# Altium schematic symbol library MCU_Module.SchLib: 53 symbols (part 2 of 2)
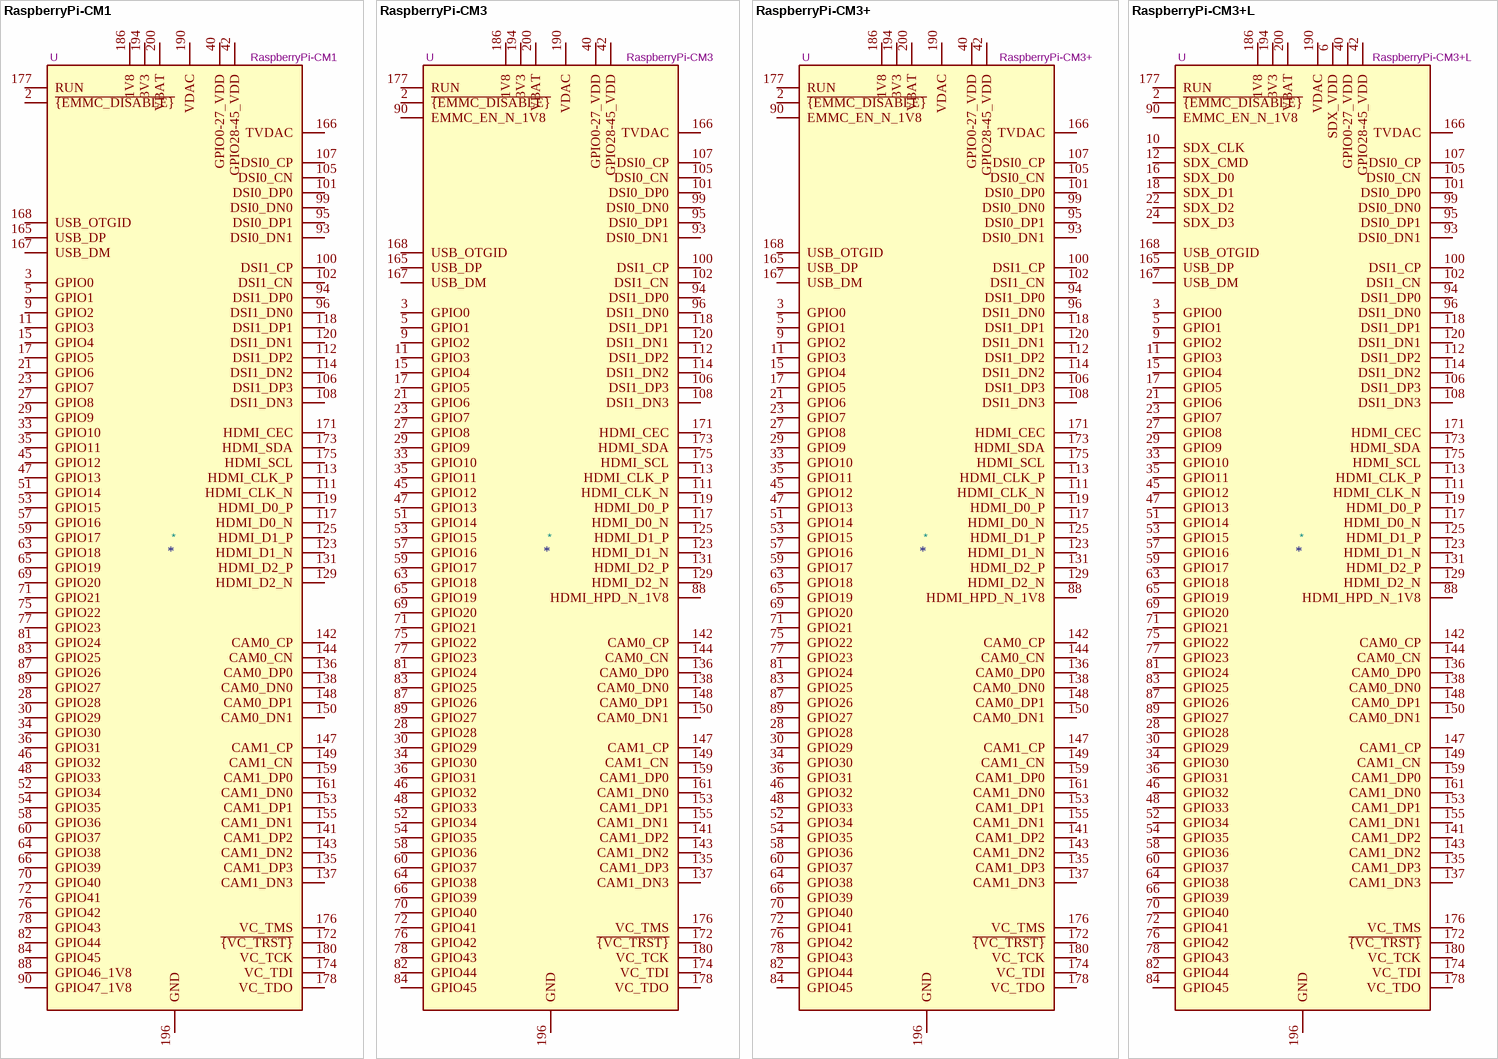
[diagram p10: symbols RaspberryPi-CM1 to RaspberryPi-CM3+L]

## RaspberryPi-CM1
designator *  value RaspberryPi-CM1  Reference: U
ki_keywords: raspberry pi compute module; ki_description: BCM2835 Broadcom 700 MZ single core, 512 MB RAM 4 GB eMMC, industrial SoM computer; ki_fp_filters: *SODIMM*; Datasheet: https://www.raspberrypi.org/documentation/hardware/computemodule/datasheets/rpi_DATA_CM_1p0.pdf
pins: 1 GND hidden, 2 ~{{EMMC_DISABLE}}, 3 GPIO0, 4 NC hidden, 5 GPIO1, 6 NC hidden, 7 GND hidden, 8 NC hidden, 9 GPIO2, 10 NC hidden, 11 GPIO3, 12 NC hidden, 13 GND hidden, 14 NC hidden, 15 GPIO4, 16 NC hidden, 17 GPIO5, 18 NC hidden, 19 GND hidden, 20 NC hidden, 21 GPIO6, 22 NC hidden, 23 GPIO7, 24 NC hidden, 25 GND hidden, 26 GND hidden, 27 GPIO8, 28 GPIO28, 29 GPIO9, 30 GPIO29, 31 GND hidden, 32 GND hidden, 33 GPIO10, 34 GPIO30, 35 GPIO11, 36 GPIO31, 37 GND hidden, 38 GND hidden, 39 GPIO0-27_VDD hidden, 40 GPIO0-27_VDD, 41 GPIO28-45_VDD hidden, 42 GPIO28-45_VDD, 43 GND hidden, 44 GND hidden, 45 GPIO12, 46 GPIO32, 47 GPIO13, 48 GPIO33, 49 GND hidden, 50 GND hidden, 51 GPIO14, 52 GPIO34, 53 GPIO15, 54 GPIO35, 55 GND hidden, 56 GND hidden, 57 GPIO16, 58 GPIO36, 59 GPIO17, 60 GPIO37, 61 GND hidden, 62 GND hidden, 63 GPIO18, 64 GPIO38, 65 GPIO19, 66 GPIO39, 67 GND hidden, 68 GND hidden, 69 GPIO20, 70 GPIO40, 71 GPIO21, 72 GPIO41, 73 GND hidden, 74 GND hidden, 75 GPIO22, 76 GPIO42, 77 GPIO23, 78 GPIO43, 79 GND hidden, 80 GND hidden, 81 GPIO24, 82 GPIO44, 83 GPIO25, 84 GPIO45, 85 GND hidden, 86 GND hidden, 87 GPIO26, 88 GPIO46_1V8, 89 GPIO27, 90 GPIO47_1V8, 91 GND hidden, 92 GND hidden, 93 DSI0_DN1, 94 DSI1_DP0, 95 DSI0_DP1, 96 DSI1_DN0, 97 GND hidden, 98 GND hidden, 99 DSI0_DN0, 100 DSI1_CP, 101 DSI0_DP0, 102 DSI1_CN, 103 GND hidden, 104 GND hidden, 105 DSI0_CN, 106 DSI1_DP3, 107 DSI0_CP, 108 DSI1_DN3, 109 GND hidden, 110 GND hidden, 111 HDMI_CLK_N, 112 DSI1_DP2, 113 HDMI_CLK_P, 114 DSI1_DN2, 115 GND hidden, 116 GND hidden, 117 HDMI_D0_N, 118 DSI1_DP1, 119 HDMI_D0_P, 120 DSI1_DN1, 121 GND hidden, 122 GND hidden, 123 HDMI_D1_N, 124 NC hidden, 125 HDMI_D1_P, 126 NC hidden, 127 GND hidden, 128 NC hidden, 129 HDMI_D2_N, 130 NC hidden, 131 HDMI_D2_P, 132 NC hidden, 133 GND hidden, 134 GND hidden, 135 CAM1_DP3, 136 CAM0_DP0, 137 CAM1_DN3, 138 CAM0_DN0, 139 GND hidden, 140 GND hidden, 141 CAM1_DP2, 142 CAM0_CP, 143 CAM1_DN2, 144 CAM0_CN, 145 GND hidden, 146 GND hidden, 147 CAM1_CP, 148 CAM0_DP1, 149 CAM1_CN, 150 CAM0_DN1, 151 GND hidden, 152 GND hidden, 153 CAM1_DP1, 154 NC hidden, 155 CAM1_DN1, 156 NC hidden, 157 GND hidden, 158 NC hidden, 159 CAM1_DP0, 160 NC hidden, 161 CAM1_DN0, 162 NC hidden, 163 GND hidden, 164 GND hidden, 165 USB_DP, 166 TVDAC, 167 USB_DM, 168 USB_OTGID, 169 GND hidden, 170 GND hidden, 171 HDMI_CEC, 172 ~{{VC_TRST}}, 173 HDMI_SDA, 174 VC_TDI, 175 HDMI_SCL, 176 VC_TMS, 177 RUN, 178 VC_TDO, 179 VDD_CORE_(DO_NOT_CONNECT) hidden, 180 VC_TCK, 181 GND hidden, 182 GND hidden, 183 1V8 hidden, 184 1V8 hidden, 185 1V8 hidden, 186 1V8, 187 GND hidden, 188 GND hidden, 189 VDAC hidden, 190 VDAC, 191 3V3 hidden, 192 3V3 hidden, 193 3V3 hidden, 194 3V3, 195 GND hidden, 196 GND, 197 VBAT hidden, 198 VBAT hidden, 199 VBAT hidden, 200 VBAT

## RaspberryPi-CM3
designator *  value RaspberryPi-CM3  Reference: U
ki_keywords: raspberry pi compute module; ki_description: BCM2837 Broadcom 1.2 GHZ quad core, 1 GB RAM 4 GB eMMC,  industrial SoM computer; ki_fp_filters: *SODIMM*; Datasheet: https://www.raspberrypi.org/documentation/hardware/computemodule/datasheets/rpi_DATA_CM_1p0.pdf
pins: 1 GND hidden, 2 ~{{EMMC_DISABLE}}, 3 GPIO0, 4 NC hidden, 5 GPIO1, 6 NC hidden, 7 GND hidden, 8 GND hidden, 9 GPIO2, 10 NC hidden, 11 GPIO3, 12 NC hidden, 13 GND hidden, 14 GND hidden, 15 GPIO4, 16 NC hidden, 17 GPIO5, 18 NC hidden, 19 GND hidden, 20 GND hidden, 21 GPIO6, 22 NC hidden, 23 GPIO7, 24 NC hidden, 25 GND hidden, 26 GND hidden, 27 GPIO8, 28 GPIO28, 29 GPIO9, 30 GPIO29, 31 GND hidden, 32 GND hidden, 33 GPIO10, 34 GPIO30, 35 GPIO11, 36 GPIO31, 37 GND hidden, 38 GND hidden, 39 GPIO0-27_VDD hidden, 40 GPIO0-27_VDD, 41 GPIO28-45_VDD hidden, 42 GPIO28-45_VDD, 43 GND hidden, 44 GND hidden, 45 GPIO12, 46 GPIO32, 47 GPIO13, 48 GPIO33, 49 GND hidden, 50 GND hidden, 51 GPIO14, 52 GPIO34, 53 GPIO15, 54 GPIO35, 55 GND hidden, 56 GND hidden, 57 GPIO16, 58 GPIO36, 59 GPIO17, 60 GPIO37, 61 GND hidden, 62 GND hidden, 63 GPIO18, 64 GPIO38, 65 GPIO19, 66 GPIO39, 67 GND hidden, 68 GND hidden, 69 GPIO20, 70 GPIO40, 71 GPIO21, 72 GPIO41, 73 GND hidden, 74 GND hidden, 75 GPIO22, 76 GPIO42, 77 GPIO23, 78 GPIO43, 79 GND hidden, 80 GND hidden, 81 GPIO24, 82 GPIO44, 83 GPIO25, 84 GPIO45, 85 GND hidden, 86 GND hidden, 87 GPIO26, 88 HDMI_HPD_N_1V8, 89 GPIO27, 90 EMMC_EN_N_1V8, 91 GND hidden, 92 GND hidden, 93 DSI0_DN1, 94 DSI1_DP0, 95 DSI0_DP1, 96 DSI1_DN0, 97 GND hidden, 98 GND hidden, 99 DSI0_DN0, 100 DSI1_CP, 101 DSI0_DP0, 102 DSI1_CN, 103 GND hidden, 104 GND hidden, 105 DSI0_CN, 106 DSI1_DP3, 107 DSI0_CP, 108 DSI1_DN3, 109 GND hidden, 110 GND hidden, 111 HDMI_CLK_N, 112 DSI1_DP2, 113 HDMI_CLK_P, 114 DSI1_DN2, 115 GND hidden, 116 GND hidden, 117 HDMI_D0_N, 118 DSI1_DP1, 119 HDMI_D0_P, 120 DSI1_DN1, 121 GND hidden, 122 GND hidden, 123 HDMI_D1_N, 124 NC hidden, 125 HDMI_D1_P, 126 NC hidden, 127 GND hidden, 128 NC hidden, 129 HDMI_D2_N, 130 NC hidden, 131 HDMI_D2_P, 132 NC hidden, 133 GND hidden, 134 GND hidden, 135 CAM1_DP3, 136 CAM0_DP0, 137 CAM1_DN3, 138 CAM0_DN0, 139 GND hidden, 140 GND hidden, 141 CAM1_DP2, 142 CAM0_CP, 143 CAM1_DN2, 144 CAM0_CN, 145 GND hidden, 146 GND hidden, 147 CAM1_CP, 148 CAM0_DP1, 149 CAM1_CN, 150 CAM0_DN1, 151 GND hidden, 152 GND hidden, 153 CAM1_DP1, 154 NC hidden, 155 CAM1_DN1, 156 NC hidden, 157 GND hidden, 158 NC hidden, 159 CAM1_DP0, 160 NC hidden, 161 CAM1_DN0, 162 NC hidden, 163 GND hidden, 164 GND hidden, 165 USB_DP, 166 TVDAC, 167 USB_DM, 168 USB_OTGID, 169 GND hidden, 170 GND hidden, 171 HDMI_CEC, 172 ~{{VC_TRST}}, 173 HDMI_SDA, 174 VC_TDI, 175 HDMI_SCL, 176 VC_TMS, 177 RUN, 178 VC_TDO, 179 VDD_CORE_(DO_NOT_CONNECT) hidden, 180 VC_TCK, 181 GND hidden, 182 GND hidden, 183 1V8 hidden, 184 1V8 hidden, 185 1V8 hidden, 186 1V8, 187 GND hidden, 188 GND hidden, 189 VDAC hidden, 190 VDAC, 191 3V3 hidden, 192 3V3 hidden, 193 3V3 hidden, 194 3V3, 195 GND hidden, 196 GND, 197 VBAT hidden, 198 VBAT hidden, 199 VBAT hidden, 200 VBAT

## RaspberryPi-CM3+
designator *  value RaspberryPi-CM3+  Reference: U
ki_keywords: raspberry pi compute module; ki_description: BCM2837B0 Broadcom 1.2 GHZ quad core, 1 GB RAM 8/16/32 GB eMMC, industrial SoM computer; ki_fp_filters: *SODIMM*; Datasheet: https://www.raspberrypi.org/documentation/hardware/computemodule/datasheets/rpi_DATA_CM3plus_1p0.pdf
pins: 1 GND hidden, 2 ~{{EMMC_DISABLE}}, 3 GPIO0, 4 NC hidden, 5 GPIO1, 6 NC hidden, 7 GND hidden, 8 GND hidden, 9 GPIO2, 10 NC hidden, 11 GPIO3, 12 NC hidden, 13 GND hidden, 14 GND hidden, 15 GPIO4, 16 NC hidden, 17 GPIO5, 18 NC hidden, 19 GND hidden, 20 GND hidden, 21 GPIO6, 22 NC hidden, 23 GPIO7, 24 NC hidden, 25 GND hidden, 26 GND hidden, 27 GPIO8, 28 GPIO28, 29 GPIO9, 30 GPIO29, 31 GND hidden, 32 GND hidden, 33 GPIO10, 34 GPIO30, 35 GPIO11, 36 GPIO31, 37 GND hidden, 38 GND hidden, 39 GPIO0-27_VDD hidden, 40 GPIO0-27_VDD, 41 GPIO28-45_VDD hidden, 42 GPIO28-45_VDD, 43 GND hidden, 44 GND hidden, 45 GPIO12, 46 GPIO32, 47 GPIO13, 48 GPIO33, 49 GND hidden, 50 GND hidden, 51 GPIO14, 52 GPIO34, 53 GPIO15, 54 GPIO35, 55 GND hidden, 56 GND hidden, 57 GPIO16, 58 GPIO36, 59 GPIO17, 60 GPIO37, 61 GND hidden, 62 GND hidden, 63 GPIO18, 64 GPIO38, 65 GPIO19, 66 GPIO39, 67 GND hidden, 68 GND hidden, 69 GPIO20, 70 GPIO40, 71 GPIO21, 72 GPIO41, 73 GND hidden, 74 GND hidden, 75 GPIO22, 76 GPIO42, 77 GPIO23, 78 GPIO43, 79 GND hidden, 80 GND hidden, 81 GPIO24, 82 GPIO44, 83 GPIO25, 84 GPIO45, 85 GND hidden, 86 GND hidden, 87 GPIO26, 88 HDMI_HPD_N_1V8, 89 GPIO27, 90 EMMC_EN_N_1V8, 91 GND hidden, 92 GND hidden, 93 DSI0_DN1, 94 DSI1_DP0, 95 DSI0_DP1, 96 DSI1_DN0, 97 GND hidden, 98 GND hidden, 99 DSI0_DN0, 100 DSI1_CP, 101 DSI0_DP0, 102 DSI1_CN, 103 GND hidden, 104 GND hidden, 105 DSI0_CN, 106 DSI1_DP3, 107 DSI0_CP, 108 DSI1_DN3, 109 GND hidden, 110 GND hidden, 111 HDMI_CLK_N, 112 DSI1_DP2, 113 HDMI_CLK_P, 114 DSI1_DN2, 115 GND hidden, 116 GND hidden, 117 HDMI_D0_N, 118 DSI1_DP1, 119 HDMI_D0_P, 120 DSI1_DN1, 121 GND hidden, 122 GND hidden, 123 HDMI_D1_N, 124 NC hidden, 125 HDMI_D1_P, 126 NC hidden, 127 GND hidden, 128 NC hidden, 129 HDMI_D2_N, 130 NC hidden, 131 HDMI_D2_P, 132 NC hidden, 133 GND hidden, 134 GND hidden, 135 CAM1_DP3, 136 CAM0_DP0, 137 CAM1_DN3, 138 CAM0_DN0, 139 GND hidden, 140 GND hidden, 141 CAM1_DP2, 142 CAM0_CP, 143 CAM1_DN2, 144 CAM0_CN, 145 GND hidden, 146 GND hidden, 147 CAM1_CP, 148 CAM0_DP1, 149 CAM1_CN, 150 CAM0_DN1, 151 GND hidden, 152 GND hidden, 153 CAM1_DP1, 154 NC hidden, 155 CAM1_DN1, 156 NC hidden, 157 GND hidden, 158 NC hidden, 159 CAM1_DP0, 160 NC hidden, 161 CAM1_DN0, 162 NC hidden, 163 GND hidden, 164 GND hidden, 165 USB_DP, 166 TVDAC, 167 USB_DM, 168 USB_OTGID, 169 GND hidden, 170 GND hidden, 171 HDMI_CEC, 172 ~{{VC_TRST}}, 173 HDMI_SDA, 174 VC_TDI, 175 HDMI_SCL, 176 VC_TMS, 177 RUN, 178 VC_TDO, 179 VDD_CORE_(DO_NOT_CONNECT) hidden, 180 VC_TCK, 181 GND hidden, 182 GND hidden, 183 1V8 hidden, 184 1V8 hidden, 185 1V8 hidden, 186 1V8, 187 GND hidden, 188 GND hidden, 189 VDAC hidden, 190 VDAC, 191 3V3 hidden, 192 3V3 hidden, 193 3V3 hidden, 194 3V3, 195 GND hidden, 196 GND, 197 VBAT hidden, 198 VBAT hidden, 199 VBAT hidden, 200 VBAT

## RaspberryPi-CM3+L
designator *  value RaspberryPi-CM3+L  Reference: U
ki_keywords: raspberry pi compute module; ki_description: BCM2837B0 Broadcom 1.2 GHZ quad core, 1 GB RAM, industrial SoM computer; ki_fp_filters: *SODIMM*; Datasheet: https://www.raspberrypi.org/documentation/hardware/computemodule/datasheets/rpi_DATA_CM3plus_1p0.pdf
pins: 1 GND hidden, 2 ~{{EMMC_DISABLE}}, 3 GPIO0, 4 SDX_VDD hidden, 5 GPIO1, 6 SDX_VDD, 7 GND hidden, 8 GND hidden, 9 GPIO2, 10 SDX_CLK, 11 GPIO3, 12 SDX_CMD, 13 GND hidden, 14 GND hidden, 15 GPIO4, 16 SDX_D0, 17 GPIO5, 18 SDX_D1, 19 GND hidden, 20 GND hidden, 21 GPIO6, 22 SDX_D2, 23 GPIO7, 24 SDX_D3, 25 GND hidden, 26 GND hidden, 27 GPIO8, 28 GPIO28, 29 GPIO9, 30 GPIO29, 31 GND hidden, 32 GND hidden, 33 GPIO10, 34 GPIO30, 35 GPIO11, 36 GPIO31, 37 GND hidden, 38 GND hidden, 39 GPIO0-27_VDD hidden, 40 GPIO0-27_VDD, 41 GPIO28-45_VDD hidden, 42 GPIO28-45_VDD, 43 GND hidden, 44 GND hidden, 45 GPIO12, 46 GPIO32, 47 GPIO13, 48 GPIO33, 49 GND hidden, 50 GND hidden, 51 GPIO14, 52 GPIO34, 53 GPIO15, 54 GPIO35, 55 GND hidden, 56 GND hidden, 57 GPIO16, 58 GPIO36, 59 GPIO17, 60 GPIO37, 61 GND hidden, 62 GND hidden, 63 GPIO18, 64 GPIO38, 65 GPIO19, 66 GPIO39, 67 GND hidden, 68 GND hidden, 69 GPIO20, 70 GPIO40, 71 GPIO21, 72 GPIO41, 73 GND hidden, 74 GND hidden, 75 GPIO22, 76 GPIO42, 77 GPIO23, 78 GPIO43, 79 GND hidden, 80 GND hidden, 81 GPIO24, 82 GPIO44, 83 GPIO25, 84 GPIO45, 85 GND hidden, 86 GND hidden, 87 GPIO26, 88 HDMI_HPD_N_1V8, 89 GPIO27, 90 EMMC_EN_N_1V8, 91 GND hidden, 92 GND hidden, 93 DSI0_DN1, 94 DSI1_DP0, 95 DSI0_DP1, 96 DSI1_DN0, 97 GND hidden, 98 GND hidden, 99 DSI0_DN0, 100 DSI1_CP, 101 DSI0_DP0, 102 DSI1_CN, 103 GND hidden, 104 GND hidden, 105 DSI0_CN, 106 DSI1_DP3, 107 DSI0_CP, 108 DSI1_DN3, 109 GND hidden, 110 GND hidden, 111 HDMI_CLK_N, 112 DSI1_DP2, 113 HDMI_CLK_P, 114 DSI1_DN2, 115 GND hidden, 116 GND hidden, 117 HDMI_D0_N, 118 DSI1_DP1, 119 HDMI_D0_P, 120 DSI1_DN1, 121 GND hidden, 122 GND hidden, 123 HDMI_D1_N, 124 NC hidden, 125 HDMI_D1_P, 126 NC hidden, 127 GND hidden, 128 NC hidden, 129 HDMI_D2_N, 130 NC hidden, 131 HDMI_D2_P, 132 NC hidden, 133 GND hidden, 134 GND hidden, 135 CAM1_DP3, 136 CAM0_DP0, 137 CAM1_DN3, 138 CAM0_DN0, 139 GND hidden, 140 GND hidden, 141 CAM1_DP2, 142 CAM0_CP, 143 CAM1_DN2, 144 CAM0_CN, 145 GND hidden, 146 GND hidden, 147 CAM1_CP, 148 CAM0_DP1, 149 CAM1_CN, 150 CAM0_DN1, 151 GND hidden, 152 GND hidden, 153 CAM1_DP1, 154 NC hidden, 155 CAM1_DN1, 156 NC hidden, 157 GND hidden, 158 NC hidden, 159 CAM1_DP0, 160 NC hidden, 161 CAM1_DN0, 162 NC hidden, 163 GND hidden, 164 GND hidden, 165 USB_DP, 166 TVDAC, 167 USB_DM, 168 USB_OTGID, 169 GND hidden, 170 GND hidden, 171 HDMI_CEC, 172 ~{{VC_TRST}}, 173 HDMI_SDA, 174 VC_TDI, 175 HDMI_SCL, 176 VC_TMS, 177 RUN, 178 VC_TDO, 179 VDD_CORE_(DO_NOT_CONNECT) hidden, 180 VC_TCK, 181 GND hidden, 182 GND hidden, 183 1V8 hidden, 184 1V8 hidden, 185 1V8 hidden, 186 1V8, 187 GND hidden, 188 GND hidden, 189 VDAC hidden, 190 VDAC, 191 3V3 hidden, 192 3V3 hidden, 193 3V3 hidden, 194 3V3, 195 GND hidden, 196 GND, 197 VBAT hidden, 198 VBAT hidden, 199 VBAT hidden, 200 VBAT

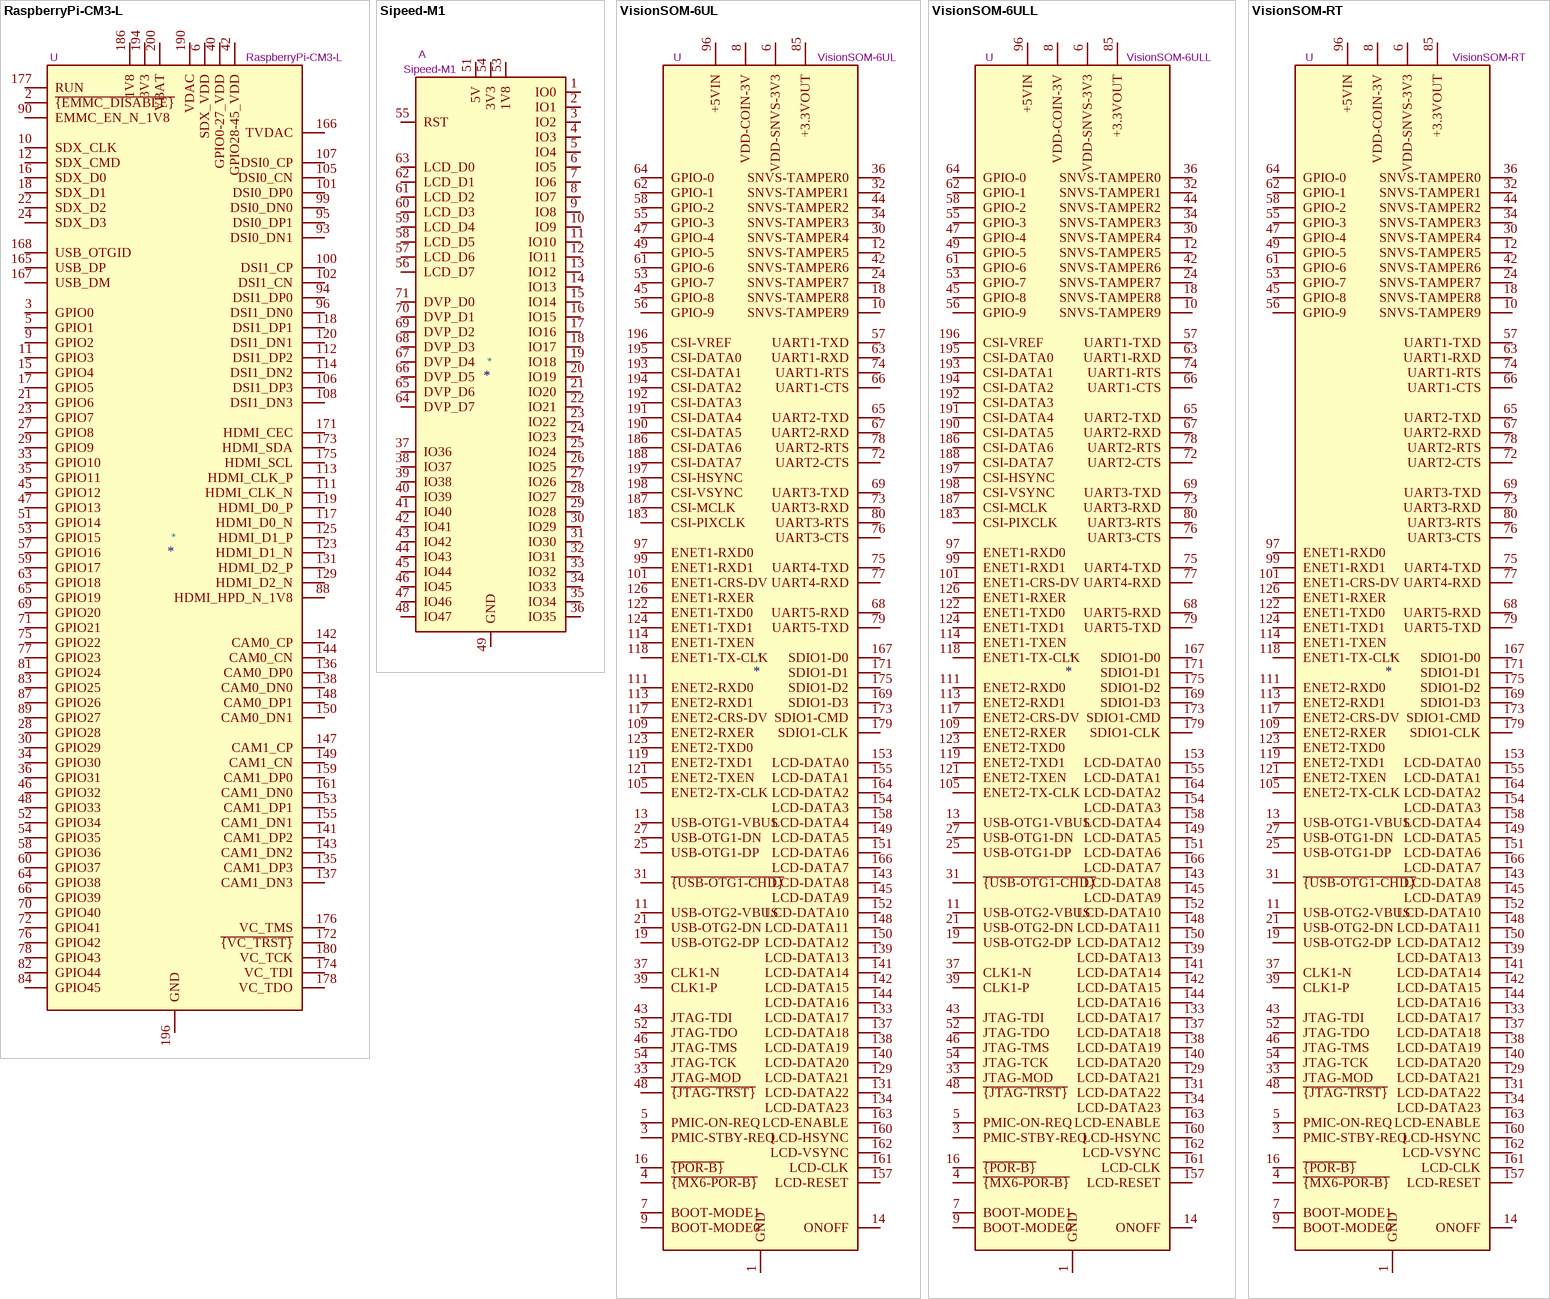
[diagram p8: symbols RaspberryPi-CM3-L to VisionSOM-RT]

## RaspberryPi-CM3-L
designator *  value RaspberryPi-CM3-L  Reference: U
ki_keywords: raspberry pi compute module; ki_description: BCM2837 Broadcom 1.2 GHZ quad core, 1 GB RAM, industrial SoM computer; ki_fp_filters: *SODIMM*; Datasheet: https://www.raspberrypi.org/documentation/hardware/computemodule/datasheets/rpi_DATA_CM_1p0.pdf
pins: 1 GND hidden, 2 ~{{EMMC_DISABLE}}, 3 GPIO0, 4 SDX_VDD hidden, 5 GPIO1, 6 SDX_VDD, 7 GND hidden, 8 GND hidden, 9 GPIO2, 10 SDX_CLK, 11 GPIO3, 12 SDX_CMD, 13 GND hidden, 14 GND hidden, 15 GPIO4, 16 SDX_D0, 17 GPIO5, 18 SDX_D1, 19 GND hidden, 20 GND hidden, 21 GPIO6, 22 SDX_D2, 23 GPIO7, 24 SDX_D3, 25 GND hidden, 26 GND hidden, 27 GPIO8, 28 GPIO28, 29 GPIO9, 30 GPIO29, 31 GND hidden, 32 GND hidden, 33 GPIO10, 34 GPIO30, 35 GPIO11, 36 GPIO31, 37 GND hidden, 38 GND hidden, 39 GPIO0-27_VDD hidden, 40 GPIO0-27_VDD, 41 GPIO28-45_VDD hidden, 42 GPIO28-45_VDD, 43 GND hidden, 44 GND hidden, 45 GPIO12, 46 GPIO32, 47 GPIO13, 48 GPIO33, 49 GND hidden, 50 GND hidden, 51 GPIO14, 52 GPIO34, 53 GPIO15, 54 GPIO35, 55 GND hidden, 56 GND hidden, 57 GPIO16, 58 GPIO36, 59 GPIO17, 60 GPIO37, 61 GND hidden, 62 GND hidden, 63 GPIO18, 64 GPIO38, 65 GPIO19, 66 GPIO39, 67 GND hidden, 68 GND hidden, 69 GPIO20, 70 GPIO40, 71 GPIO21, 72 GPIO41, 73 GND hidden, 74 GND hidden, 75 GPIO22, 76 GPIO42, 77 GPIO23, 78 GPIO43, 79 GND hidden, 80 GND hidden, 81 GPIO24, 82 GPIO44, 83 GPIO25, 84 GPIO45, 85 GND hidden, 86 GND hidden, 87 GPIO26, 88 HDMI_HPD_N_1V8, 89 GPIO27, 90 EMMC_EN_N_1V8, 91 GND hidden, 92 GND hidden, 93 DSI0_DN1, 94 DSI1_DP0, 95 DSI0_DP1, 96 DSI1_DN0, 97 GND hidden, 98 GND hidden, 99 DSI0_DN0, 100 DSI1_CP, 101 DSI0_DP0, 102 DSI1_CN, 103 GND hidden, 104 GND hidden, 105 DSI0_CN, 106 DSI1_DP3, 107 DSI0_CP, 108 DSI1_DN3, 109 GND hidden, 110 GND hidden, 111 HDMI_CLK_N, 112 DSI1_DP2, 113 HDMI_CLK_P, 114 DSI1_DN2, 115 GND hidden, 116 GND hidden, 117 HDMI_D0_N, 118 DSI1_DP1, 119 HDMI_D0_P, 120 DSI1_DN1, 121 GND hidden, 122 GND hidden, 123 HDMI_D1_N, 124 NC hidden, 125 HDMI_D1_P, 126 NC hidden, 127 GND hidden, 128 NC hidden, 129 HDMI_D2_N, 130 NC hidden, 131 HDMI_D2_P, 132 NC hidden, 133 GND hidden, 134 GND hidden, 135 CAM1_DP3, 136 CAM0_DP0, 137 CAM1_DN3, 138 CAM0_DN0, 139 GND hidden, 140 GND hidden, 141 CAM1_DP2, 142 CAM0_CP, 143 CAM1_DN2, 144 CAM0_CN, 145 GND hidden, 146 GND hidden, 147 CAM1_CP, 148 CAM0_DP1, 149 CAM1_CN, 150 CAM0_DN1, 151 GND hidden, 152 GND hidden, 153 CAM1_DP1, 154 NC hidden, 155 CAM1_DN1, 156 NC hidden, 157 GND hidden, 158 NC hidden, 159 CAM1_DP0, 160 NC hidden, 161 CAM1_DN0, 162 NC hidden, 163 GND hidden, 164 GND hidden, 165 USB_DP, 166 TVDAC, 167 USB_DM, 168 USB_OTGID, 169 GND hidden, 170 GND hidden, 171 HDMI_CEC, 172 ~{{VC_TRST}}, 173 HDMI_SDA, 174 VC_TDI, 175 HDMI_SCL, 176 VC_TMS, 177 RUN, 178 VC_TDO, 179 VDD_CORE_(DO_NOT_CONNECT) hidden, 180 VC_TCK, 181 GND hidden, 182 GND hidden, 183 1V8 hidden, 184 1V8 hidden, 185 1V8 hidden, 186 1V8, 187 GND hidden, 188 GND hidden, 189 VDAC hidden, 190 VDAC, 191 3V3 hidden, 192 3V3 hidden, 193 3V3 hidden, 194 3V3, 195 GND hidden, 196 GND, 197 VBAT hidden, 198 VBAT hidden, 199 VBAT hidden, 200 VBAT

## Sipeed-M1
designator *  value Sipeed-M1  Reference: A
ki_keywords: AI Kendryte K210 RISC-V; ki_description: AI accelerated RISC-V microcontroller; ki_fp_filters: Sipeed*M1*; Footprint: Module:Sipeed-M1; Datasheet: https://dl.sipeed.com/MAIX/HDK/Sipeed-M1&M1W/Specifications
pins: 1 IO0, 2 IO1, 3 IO2, 4 IO3, 5 IO4, 6 IO5, 7 IO6, 8 IO7, 9 IO8, 10 IO9, 11 IO10, 12 IO11, 13 IO12, 14 IO13, 15 IO14, 16 IO15, 17 IO16, 18 IO17, 19 IO18, 20 IO19, 21 IO20, 22 IO21, 23 IO22, 24 IO23, 25 IO24, 26 IO25, 27 IO26, 28 IO27, 29 IO28, 30 IO29, 31 IO30, 32 IO31, 33 IO32, 34 IO33, 35 IO34, 36 IO35, 37 IO36, 38 IO37, 39 IO38, 40 IO39, 41 IO40, 42 IO41, 43 IO42, 44 IO43, 45 IO44, 46 IO45, 47 IO46, 48 IO47, 49 GND, 50 GND hidden, 51 5V, 52 5V hidden, 53 1V8, 54 3V3, 55 RST, 56 LCD_D7, 57 LCD_D6, 58 LCD_D5, 59 LCD_D4, 60 LCD_D3, 61 LCD_D2, 62 LCD_D1, 63 LCD_D0, 64 DVP_D7, 65 DVP_D6, 66 DVP_D5, 67 DVP_D4, 68 DVP_D3, 69 DVP_D2, 70 DVP_D1, 71 DVP_D0, 72 GND hidden, 73 GND hidden, 74 GND hidden, 75 GND hidden, 76 GND hidden, 77 GND hidden

## VisionSOM-6UL
designator *  value VisionSOM-6UL  Reference: U
ki_keywords: somlabs module; ki_description: i.MX6-UL NXP ARM Cortex-A7 696MHz single core industrial SoM computer; ki_fp_filters: *SODIMM*; Datasheet: https://wiki.somlabs.com/extensions/JZPDFGen/pdf/VisionSOM-6UL%20Datasheet%20and%20Pinout-41.pdf
pins: 1 GND, 2 GND hidden, 3 PMIC-STBY-REQ, 4 ~{{MX6-POR-B}}, 5 PMIC-ON-REQ, 6 VDD-SNVS-3V3, 7 BOOT-MODE1, 8 VDD-COIN-3V, 9 BOOT-MODE0, 10 SNVS-TAMPER9, 11 USB-OTG2-VBUS, 12 SNVS-TAMPER5, 13 USB-OTG1-VBUS, 14 ONOFF, 15 GND hidden, 16 ~{{POR-B}}, 17 GND hidden, 18 SNVS-TAMPER8, 19 USB-OTG2-DP, 20 GND hidden, 21 USB-OTG2-DN, 22 GND hidden, 23 GND hidden, 24 SNVS-TAMPER7, 25 USB-OTG1-DP, 26 GND hidden, 27 USB-OTG1-DN, 28 GND hidden, 29 GND hidden, 30 SNVS-TAMPER4, 31 ~{{USB-OTG1-CHD}}, 32 SNVS-TAMPER1, 33 JTAG-MOD, 34 SNVS-TAMPER3, 35 GND hidden, 36 SNVS-TAMPER0, 37 CLK1-N, 38 GND hidden, 39 CLK1-P, 40 GND hidden, 41 GND hidden, 42 SNVS-TAMPER6, 43 JTAG-TDI, 44 SNVS-TAMPER2, 45 GPIO-8, 46 JTAG-TMS, 47 GPIO-4, 48 ~{{JTAG-TRST}}, 49 GPIO-5, 50 GND hidden, 51 GND hidden, 52 JTAG-TDO, 53 GPIO-7, 54 JTAG-TCK, 55 GPIO-3, 56 GPIO-9, 57 UART1-TXD, 58 GPIO-2, 59 GND hidden, 60 GND hidden, 61 GPIO-6, 62 GPIO-1, 63 UART1-RXD, 64 GPIO-0, 65 UART2-TXD, 66 UART1-CTS, 67 UART2-RXD, 68 UART5-RXD, 69 UART3-TXD, 70 GND hidden, 71 GND hidden, 72 UART2-CTS, 73 UART3-RXD, 74 UART1-RTS, 75 UART4-TXD, 76 UART3-CTS, 77 UART4-RXD, 78 UART2-RTS, 79 UART5-TXD, 80 UART3-RTS, 81 GND hidden, 82 GND hidden, 83 NC hidden, 84 GND hidden, 85 +3.3VOUT, 86 NC hidden, 87 +3.3VOUT hidden, 88 +3.3VOUT hidden, 89 +3.3VOUT hidden, 90 +3.3VOUT hidden, 91 +3.3VOUT hidden, 92 +3.3VOUT hidden, 93 +3.3VOUT hidden, 94 NC hidden, 95 NC hidden, 96 +5VIN, 97 ENET1-RXD0, 98 +5VIN hidden, 99 ENET1-RXD1, 100 +5VIN hidden, 101 ENET1-CRS-DV, 102 +5VIN hidden, 103 GND hidden, 104 +5VIN hidden, 105 ENET2-TX-CLK, 106 +5VIN hidden, 107 GND hidden, 108 +5VIN hidden, 109 ENET2-RXER, 110 +5VIN hidden, 111 ENET2-RXD0, 112 +5VIN hidden, 113 ENET2-RXD1, 114 ENET1-TXEN, 115 GND hidden, 116 GND hidden, 117 ENET2-CRS-DV, 118 ENET1-TX-CLK, 119 ENET2-TXD1, 120 GND hidden, 121 ENET2-TXEN, 122 ENET1-TXD0, 123 ENET2-TXD0, 124 ENET1-TXD1, 125 GND hidden, 126 ENET1-RXER, 127 GND hidden, 128 GND hidden, 129 LCD-DATA21, 130 GND hidden, 131 LCD-DATA22, 132 GND hidden, 133 LCD-DATA17, 134 LCD-DATA23, 135 GND hidden, 136 GND hidden, 137 LCD-DATA18, 138 LCD-DATA19, 139 LCD-DATA13, 140 LCD-DATA20, 141 LCD-DATA14, 142 LCD-DATA15, 143 LCD-DATA8, 144 LCD-DATA16, 145 LCD-DATA9, 146 GND hidden, 147 GND hidden, 148 LCD-DATA11, 149 LCD-DATA5, 150 LCD-DATA12, 151 LCD-DATA6, 152 LCD-DATA10, 153 LCD-DATA0, 154 LCD-DATA3, 155 LCD-DATA1, 156 GND hidden, 157 LCD-RESET, 158 LCD-DATA4, 159 GND hidden, 160 LCD-HSYNC, 161 LCD-CLK, 162 LCD-VSYNC, 163 LCD-ENABLE, 164 LCD-DATA2, 165 GND hidden, 166 LCD-DATA7, 167 SDIO1-D0, 168 GND hidden, 169 SDIO1-D3, 170 GND hidden, 171 SDIO1-D1, 172 GND hidden, 173 SDIO1-CMD, 174 GND hidden, 175 SDIO1-D2, 176 GND hidden, 177 GND hidden, 178 GND hidden, 179 SDIO1-CLK, 180 GND hidden, 181 GND hidden, 182 GND hidden, 183 CSI-PIXCLK, 184 GND hidden, 185 GND hidden, 186 CSI-DATA6, 187 CSI-MCLK, 188 CSI-DATA7, 189 GND hidden, 190 CSI-DATA5, 191 CSI-DATA4, 192 CSI-DATA3, 193 CSI-DATA1, 194 CSI-DATA2, 195 CSI-DATA0, 196 CSI-VREF, 197 CSI-HSYNC, 198 CSI-VSYNC, 199 GND hidden, 200 GND hidden

## VisionSOM-6ULL
designator *  value VisionSOM-6ULL  Reference: U
ki_keywords: somlabs module; ki_description: i.MX6-ULL NXP ARM Cortex-A7 900MHz single core industrial SoM computer; ki_fp_filters: *SODIMM*; Datasheet: https://wiki.somlabs.com/extensions/JZPDFGen/pdf/VisionSOM-6ULL%20Datasheet%20and%20Pinout-21.pdf
pins: 1 GND, 2 GND hidden, 3 PMIC-STBY-REQ, 4 ~{{MX6-POR-B}}, 5 PMIC-ON-REQ, 6 VDD-SNVS-3V3, 7 BOOT-MODE1, 8 VDD-COIN-3V, 9 BOOT-MODE0, 10 SNVS-TAMPER9, 11 USB-OTG2-VBUS, 12 SNVS-TAMPER5, 13 USB-OTG1-VBUS, 14 ONOFF, 15 GND hidden, 16 ~{{POR-B}}, 17 GND hidden, 18 SNVS-TAMPER8, 19 USB-OTG2-DP, 20 GND hidden, 21 USB-OTG2-DN, 22 GND hidden, 23 GND hidden, 24 SNVS-TAMPER7, 25 USB-OTG1-DP, 26 GND hidden, 27 USB-OTG1-DN, 28 GND hidden, 29 GND hidden, 30 SNVS-TAMPER4, 31 ~{{USB-OTG1-CHD}}, 32 SNVS-TAMPER1, 33 JTAG-MOD, 34 SNVS-TAMPER3, 35 GND hidden, 36 SNVS-TAMPER0, 37 CLK1-N, 38 GND hidden, 39 CLK1-P, 40 GND hidden, 41 GND hidden, 42 SNVS-TAMPER6, 43 JTAG-TDI, 44 SNVS-TAMPER2, 45 GPIO-8, 46 JTAG-TMS, 47 GPIO-4, 48 ~{{JTAG-TRST}}, 49 GPIO-5, 50 GND hidden, 51 GND hidden, 52 JTAG-TDO, 53 GPIO-7, 54 JTAG-TCK, 55 GPIO-3, 56 GPIO-9, 57 UART1-TXD, 58 GPIO-2, 59 GND hidden, 60 GND hidden, 61 GPIO-6, 62 GPIO-1, 63 UART1-RXD, 64 GPIO-0, 65 UART2-TXD, 66 UART1-CTS, 67 UART2-RXD, 68 UART5-RXD, 69 UART3-TXD, 70 GND hidden, 71 GND hidden, 72 UART2-CTS, 73 UART3-RXD, 74 UART1-RTS, 75 UART4-TXD, 76 UART3-CTS, 77 UART4-RXD, 78 UART2-RTS, 79 UART5-TXD, 80 UART3-RTS, 81 GND hidden, 82 GND hidden, 83 NC hidden, 84 GND hidden, 85 +3.3VOUT, 86 NC hidden, 87 +3.3VOUT hidden, 88 +3.3VOUT hidden, 89 +3.3VOUT hidden, 90 +3.3VOUT hidden, 91 +3.3VOUT hidden, 92 +3.3VOUT hidden, 93 +3.3VOUT hidden, 94 NC hidden, 95 NC hidden, 96 +5VIN, 97 ENET1-RXD0, 98 +5VIN hidden, 99 ENET1-RXD1, 100 +5VIN hidden, 101 ENET1-CRS-DV, 102 +5VIN hidden, 103 GND hidden, 104 +5VIN hidden, 105 ENET2-TX-CLK, 106 +5VIN hidden, 107 GND hidden, 108 +5VIN hidden, 109 ENET2-RXER, 110 +5VIN hidden, 111 ENET2-RXD0, 112 +5VIN hidden, 113 ENET2-RXD1, 114 ENET1-TXEN, 115 GND hidden, 116 GND hidden, 117 ENET2-CRS-DV, 118 ENET1-TX-CLK, 119 ENET2-TXD1, 120 GND hidden, 121 ENET2-TXEN, 122 ENET1-TXD0, 123 ENET2-TXD0, 124 ENET1-TXD1, 125 GND hidden, 126 ENET1-RXER, 127 GND hidden, 128 GND hidden, 129 LCD-DATA21, 130 GND hidden, 131 LCD-DATA22, 132 GND hidden, 133 LCD-DATA17, 134 LCD-DATA23, 135 GND hidden, 136 GND hidden, 137 LCD-DATA18, 138 LCD-DATA19, 139 LCD-DATA13, 140 LCD-DATA20, 141 LCD-DATA14, 142 LCD-DATA15, 143 LCD-DATA8, 144 LCD-DATA16, 145 LCD-DATA9, 146 GND hidden, 147 GND hidden, 148 LCD-DATA11, 149 LCD-DATA5, 150 LCD-DATA12, 151 LCD-DATA6, 152 LCD-DATA10, 153 LCD-DATA0, 154 LCD-DATA3, 155 LCD-DATA1, 156 GND hidden, 157 LCD-RESET, 158 LCD-DATA4, 159 GND hidden, 160 LCD-HSYNC, 161 LCD-CLK, 162 LCD-VSYNC, 163 LCD-ENABLE, 164 LCD-DATA2, 165 GND hidden, 166 LCD-DATA7, 167 SDIO1-D0, 168 GND hidden, 169 SDIO1-D3, 170 GND hidden, 171 SDIO1-D1, 172 GND hidden, 173 SDIO1-CMD, 174 GND hidden, 175 SDIO1-D2, 176 GND hidden, 177 GND hidden, 178 GND hidden, 179 SDIO1-CLK, 180 GND hidden, 181 GND hidden, 182 GND hidden, 183 CSI-PIXCLK, 184 GND hidden, 185 GND hidden, 186 CSI-DATA6, 187 CSI-MCLK, 188 CSI-DATA7, 189 GND hidden, 190 CSI-DATA5, 191 CSI-DATA4, 192 CSI-DATA3, 193 CSI-DATA1, 194 CSI-DATA2, 195 CSI-DATA0, 196 CSI-VREF, 197 CSI-HSYNC, 198 CSI-VSYNC, 199 GND hidden, 200 GND hidden

## VisionSOM-RT
designator *  value VisionSOM-RT  Reference: U
ki_keywords: somlabs module; ki_description: i.MX-RT NXP ARM Cortex-M7 528MHz single core industrial SoM computer; ki_fp_filters: *SODIMM*; Datasheet: https://wiki.somlabs.com/index.php/VisionSOM-RT_Datasheet_and_Pinout
pins: 1 GND, 2 GND hidden, 3 PMIC-STBY-REQ, 4 ~{{MX6-POR-B}}, 5 PMIC-ON-REQ, 6 VDD-SNVS-3V3, 7 BOOT-MODE1, 8 VDD-COIN-3V, 9 BOOT-MODE0, 10 SNVS-TAMPER9, 11 USB-OTG2-VBUS, 12 SNVS-TAMPER5, 13 USB-OTG1-VBUS, 14 ONOFF, 15 GND hidden, 16 ~{{POR-B}}, 17 GND hidden, 18 SNVS-TAMPER8, 19 USB-OTG2-DP, 20 GND hidden, 21 USB-OTG2-DN, 22 GND hidden, 23 GND hidden, 24 SNVS-TAMPER7, 25 USB-OTG1-DP, 26 GND hidden, 27 USB-OTG1-DN, 28 GND hidden, 29 GND hidden, 30 SNVS-TAMPER4, 31 ~{{USB-OTG1-CHD}}, 32 SNVS-TAMPER1, 33 JTAG-MOD, 34 SNVS-TAMPER3, 35 GND hidden, 36 SNVS-TAMPER0, 37 CLK1-N, 38 GND hidden, 39 CLK1-P, 40 GND hidden, 41 GND hidden, 42 SNVS-TAMPER6, 43 JTAG-TDI, 44 SNVS-TAMPER2, 45 GPIO-8, 46 JTAG-TMS, 47 GPIO-4, 48 ~{{JTAG-TRST}}, 49 GPIO-5, 50 GND hidden, 51 GND hidden, 52 JTAG-TDO, 53 GPIO-7, 54 JTAG-TCK, 55 GPIO-3, 56 GPIO-9, 57 UART1-TXD, 58 GPIO-2, 59 GND hidden, 60 GND hidden, 61 GPIO-6, 62 GPIO-1, 63 UART1-RXD, 64 GPIO-0, 65 UART2-TXD, 66 UART1-CTS, 67 UART2-RXD, 68 UART5-RXD, 69 UART3-TXD, 70 GND hidden, 71 GND hidden, 72 UART2-CTS, 73 UART3-RXD, 74 UART1-RTS, 75 UART4-TXD, 76 UART3-CTS, 77 UART4-RXD, 78 UART2-RTS, 79 UART5-TXD, 80 UART3-RTS, 81 GND hidden, 82 GND hidden, 83 NC hidden, 84 GND hidden, 85 +3.3VOUT, 86 NC hidden, 87 +3.3VOUT hidden, 88 +3.3VOUT hidden, 89 +3.3VOUT hidden, 90 +3.3VOUT hidden, 91 +3.3VOUT hidden, 92 +3.3VOUT hidden, 93 +3.3VOUT hidden, 94 NC hidden, 95 NC hidden, 96 +5VIN, 97 ENET1-RXD0, 98 +5VIN hidden, 99 ENET1-RXD1, 100 +5VIN hidden, 101 ENET1-CRS-DV, 102 +5VIN hidden, 103 GND hidden, 104 +5VIN hidden, 105 ENET2-TX-CLK, 106 +5VIN hidden, 107 GND hidden, 108 +5VIN hidden, 109 ENET2-RXER, 110 +5VIN hidden, 111 ENET2-RXD0, 112 +5VIN hidden, 113 ENET2-RXD1, 114 ENET1-TXEN, 115 GND hidden, 116 GND hidden, 117 ENET2-CRS-DV, 118 ENET1-TX-CLK, 119 ENET2-TXD1, 120 GND hidden, 121 ENET2-TXEN, 122 ENET1-TXD0, 123 ENET2-TXD0, 124 ENET1-TXD1, 125 GND hidden, 126 ENET1-RXER, 127 GND hidden, 128 GND hidden, 129 LCD-DATA21, 130 GND hidden, 131 LCD-DATA22, 132 GND hidden, 133 LCD-DATA17, 134 LCD-DATA23, 135 GND hidden, 136 GND hidden, 137 LCD-DATA18, 138 LCD-DATA19, 139 LCD-DATA13, 140 LCD-DATA20, 141 LCD-DATA14, 142 LCD-DATA15, 143 LCD-DATA8, 144 LCD-DATA16, 145 LCD-DATA9, 146 GND hidden, 147 GND hidden, 148 LCD-DATA11, 149 LCD-DATA5, 150 LCD-DATA12, 151 LCD-DATA6, 152 LCD-DATA10, 153 LCD-DATA0, 154 LCD-DATA3, 155 LCD-DATA1, 156 GND hidden, 157 LCD-RESET, 158 LCD-DATA4, 159 GND hidden, 160 LCD-HSYNC, 161 LCD-CLK, 162 LCD-VSYNC, 163 LCD-ENABLE, 164 LCD-DATA2, 165 GND hidden, 166 LCD-DATA7, 167 SDIO1-D0, 168 GND hidden, 169 SDIO1-D3, 170 GND hidden, 171 SDIO1-D1, 172 GND hidden, 173 SDIO1-CMD, 174 GND hidden, 175 SDIO1-D2, 176 NC hidden, 177 GND hidden, 178 NC hidden, 179 SDIO1-CLK, 180 NC hidden, 181 GND hidden, 182 NC hidden, 183 NC hidden, 184 GND hidden, 185 GND hidden, 186 NC hidden, 187 NC hidden, 188 NC hidden, 189 GND hidden, 190 NC hidden, 191 NC hidden, 192 NC hidden, 193 NC hidden, 194 NC hidden, 195 NC hidden, 196 NC hidden, 197 NC hidden, 198 NC hidden, 199 GND hidden, 200 GND hidden

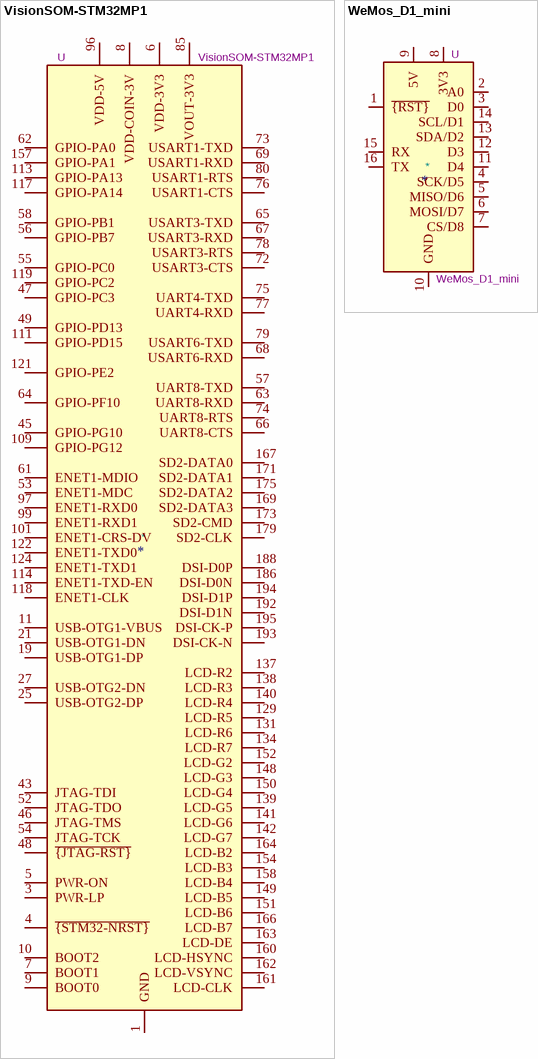
[diagram p9: symbols VisionSOM-STM32MP1 to WeMos_D1_mini]

## VisionSOM-STM32MP1
designator *  value VisionSOM-STM32MP1  Reference: U
ki_keywords: somlabs module; ki_description: STM32MP1 STMicroelectronics ARM Cortex-A7 800MHz single/dual core + ARM Cortex-M4 209MHz single core industrial SoM computer; ki_fp_filters: *SODIMM*; Datasheet: https://wiki.somlabs.com/index.php/VisionSOM-STM32MP1_Datasheet_and_Pinout
pins: 1 GND, 2 GND hidden, 3 PWR-LP, 4 ~{{STM32-NRST}}, 5 PWR-ON, 6 VDD-3V3, 7 BOOT1, 8 VDD-COIN-3V, 9 BOOT0, 10 BOOT2, 11 USB-OTG1-VBUS, 12 NC hidden, 13 NC hidden, 14 NC hidden, 15 GND hidden, 16 NC hidden, 17 GND hidden, 18 NC hidden, 19 USB-OTG1-DP, 20 GND hidden, 21 USB-OTG1-DN, 22 GND hidden, 23 GND hidden, 24 NC hidden, 25 USB-OTG2-DP, 26 GND hidden, 27 USB-OTG2-DN, 28 GND hidden, 29 GND hidden, 30 NC hidden, 31 NC hidden, 32 NC hidden, 33 NC hidden, 34 NC hidden, 35 GND hidden, 36 NC hidden, 37 NC hidden, 38 GND hidden, 39 NC hidden, 40 GND hidden, 41 GND hidden, 42 NC hidden, 43 JTAG-TDI, 44 NC hidden, 45 GPIO-PG10, 46 JTAG-TMS, 47 GPIO-PC3, 48 ~{{JTAG-RST}}, 49 GPIO-PD13, 50 GND hidden, 51 GND hidden, 52 JTAG-TDO, 53 ENET1-MDC, 54 JTAG-TCK, 55 GPIO-PC0, 56 GPIO-PB7, 57 UART8-TXD, 58 GPIO-PB1, 59 GND hidden, 60 GND hidden, 61 ENET1-MDIO, 62 GPIO-PA0, 63 UART8-RXD, 64 GPIO-PF10, 65 USART3-TXD, 66 UART8-CTS, 67 USART3-RXD, 68 USART6-RXD, 69 USART1-RXD, 70 GND hidden, 71 GND hidden, 72 USART3-CTS, 73 USART1-TXD, 74 UART8-RTS, 75 UART4-TXD, 76 USART1-CTS, 77 UART4-RXD, 78 USART3-RTS, 79 USART6-TXD, 80 USART1-RTS, 81 GND hidden, 82 GND hidden, 83 NC hidden, 84 GND hidden, 85 VOUT-3V3, 86 NC hidden, 87 VOUT-3V3 hidden, 88 VOUT-3V3 hidden, 89 VOUT-3V3 hidden, 90 VOUT-3V3 hidden, 91 VOUT-3V3 hidden, 92 VOUT-3V3 hidden, 93 VOUT-3V3 hidden, 94 NC hidden, 95 NC hidden, 96 VDD-5V, 97 ENET1-RXD0, 98 VDD-5V hidden, 99 ENET1-RXD1, 100 VDD-5V hidden, 101 ENET1-CRS-DV, 102 VDD-5V hidden, 103 GND hidden, 104 VDD-5V hidden, 105 NC hidden, 106 VDD-5V hidden, 107 GND hidden, 108 VDD-5V hidden, 109 GPIO-PG12, 110 VDD-5V hidden, 111 GPIO-PD15, 112 VDD-5V hidden, 113 GPIO-PA13, 114 ENET1-TXD-EN, 115 GND hidden, 116 GND hidden, 117 GPIO-PA14, 118 ENET1-CLK, 119 GPIO-PC2, 120 GND hidden, 121 GPIO-PE2, 122 ENET1-TXD0, 123 NC hidden, 124 ENET1-TXD1, 125 GND hidden, 126 NC hidden, 127 GND hidden, 128 GND hidden, 129 LCD-R5, 130 GND hidden, 131 LCD-R6, 132 GND hidden, 133 GND hidden, 134 LCD-R7, 135 GND hidden, 136 GND hidden, 137 LCD-R2, 138 LCD-R3, 139 LCD-G5, 140 LCD-R4, 141 LCD-G6, 142 LCD-G7, 143 GND hidden, 144 GND hidden, 145 GND hidden, 146 GND hidden, 147 GND hidden, 148 LCD-G3, 149 LCD-B5, 150 LCD-G4, 151 LCD-B6, 152 LCD-G2, 153 GND hidden, 154 LCD-B3, 155 GND hidden, 156 GND hidden, 157 GPIO-PA1, 158 LCD-B4, 159 GND hidden, 160 LCD-HSYNC, 161 LCD-CLK, 162 LCD-VSYNC, 163 LCD-DE, 164 LCD-B2, 165 GND hidden, 166 LCD-B7, 167 SD2-DATA0, 168 GND hidden, 169 SD2-DATA3, 170 GND hidden, 171 SD2-DATA1, 172 GND hidden, 173 SD2-CMD, 174 GND hidden, 175 SD2-DATA2, 176 GND hidden, 177 GND hidden, 178 GND hidden, 179 SD2-CLK, 180 GND hidden, 181 GND hidden, 182 GND hidden, 183 NC hidden, 184 GND hidden, 185 GND hidden, 186 DSI-D0N, 187 NC hidden, 188 DSI-D0P, 189 GND hidden, 190 NC hidden, 191 NC hidden, 192 DSI-D1N, 193 DSI-CK-N, 194 DSI-D1P, 195 DSI-CK-P, 196 NC hidden, 197 NC hidden, 198 NC hidden, 199 GND hidden, 200 GND hidden

## WeMos_D1_mini
designator *  value WeMos_D1_mini  Reference: U
ki_keywords: ESP8266 WiFi microcontroller ESP8266EX; ki_description: 32-bit microcontroller module with WiFi; ki_fp_filters: WEMOS*D1*mini*; Footprint: Module:WEMOS_D1_mini_light; Datasheet: https://wiki.wemos.cc/products:d1:d1_mini#documentation
pins: 1 ~{{RST}}, 2 A0, 3 D0, 4 SCK/D5, 5 MISO/D6, 6 MOSI/D7, 7 CS/D8, 8 3V3, 9 5V, 10 GND, 11 D4, 12 D3, 13 SDA/D2, 14 SCL/D1, 15 RX, 16 TX